# EAGLE library part LTC6820 (library HyTechDevices_temp)
LTC6820 isoSPI Isolated Communications Interface Datasheet <mouser.com/datasheet/2/609/LTC6820-1601976.pdf>
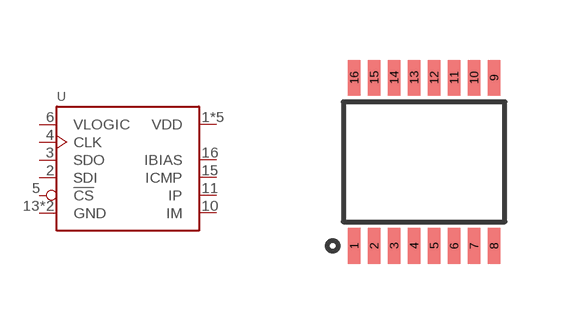
[diagram p0: symbol with the pads of MSOP-16; footprint MSOP-16]

Designator prefix U

## LTC6820 (MANUFACTURER: Analog Devices; MPN: LTC6820IMS#PBF)  [MSOP-16]
1  VDD  pwr
2  SDI  oc
3  SDO  oc
4  CLK  in
5  !CS  in
6  VLOGIC
7  VDD  pwr
8  VDD  pwr
9  VDD  pwr
10  IM
11  IP
12  VDD  pwr
13  GND  pwr
14  GND  pwr
15  ICMP
16  IBIAS

## Footprint MSOP-16 (pad centres in mm)
MSOP 16 Datasheet <https://www.analog.com/media/en/package-pcb-resources/package/pkg_pdf/ltc-legacy-msop/05081669_A_MS16.pdf>
smd 0.305 x 0.889: 1 -1.75,-2.106; 2 -1.25,-2.106; 3 -0.75,-2.106; 4 -0.25,-2.106; 5 0.25,-2.106; 6 0.75,-2.106; 7 1.25,-2.106; 8 1.75,-2.106; 9 1.75,2.106; 10 1.25,2.106; 11 0.75,2.106; 12 0.25,2.106; 13 -0.25,2.106; 14 -0.75,2.106; 15 -1.25,2.106; 16 -1.75,2.106